# Altium footprint library PCB1.PcbLib: 38 footprints (part 3 of 3)
Each footprint in its own frame and in the unit in brackets; x right, y up, seen from the top. Pads: shape width x height; smd on the part's side, far side on the other; paste and mask are expansions set on the pad; w line width, h text height; cw(c..) or ccw(c..) is an arc to the next point about the centre after c.
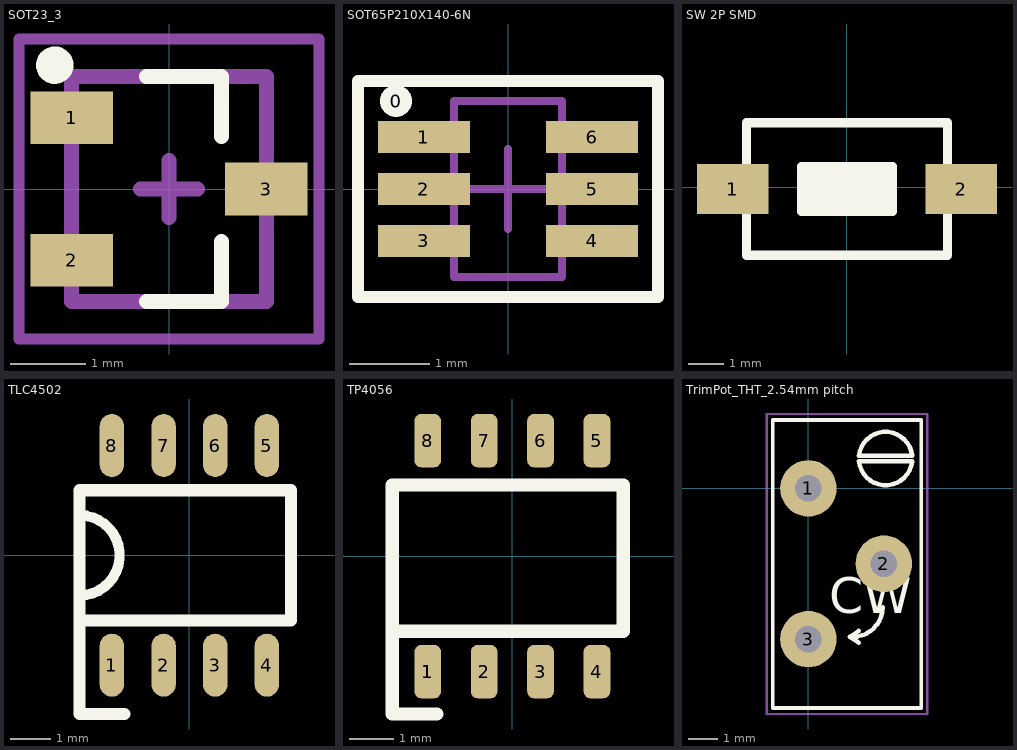
[diagram p2: the footprints below, top view; thin cyan lines are the x and y axes]

## SOT23_3 [mm]
pads (3):
  rect 1.1x0.7 smd: 1(-1.3,0.95) 2(-1.3,-0.95) 3(1.3,0)
Top Overlay:
  circle w0.25: c-1.524,1.651 r0.125
  lines w0.2: -0.3,-1.5 0.7,-1.5 0.7,-0.7 ; -0.3,1.5 0.7,1.5 0.7,0.7
Top 3D Body:
  lines w0.2: -0.381,0 0.381,0 ; 0,-0.381 0,0.381 ; -1.3,-1.5 -1.3,1.5 1.3,1.5 1.3,-1.5 -1.3,-1.5
Top Courtyard:
  lines w0.15: -2,-2 -2,2 2,2 2,-2 -2,-2
  text ".Designator" at -1.3,-0.5 h1.2
3D body "SOT95P230X110-3N.step": height 1.1, standoff 0, extent -1.3,-1.5 1.3,1.5

## SOT65P210X140-6N [mm] "SOT23, 6-Leads, Body 2.00x2.10mm, Pitch 0.65mm, IPC Medium Density"
height 1.4
pads (7):
  round 0.4 on Top Overlay: 0(-1.4,1.1)
  rect 1.15x0.4 smd: 1(-1.05,0.65) 2(-1.05,0) 3(-1.05,-0.65) 4(1.05,-0.65) 5(1.05,0) 6(1.05,0.65)
Top Overlay:
  lines w0.15: -1.875,-1.35 1.875,-1.35 1.875,1.35 -1.875,1.35 -1.875,-1.35
Top 3D Body:
  lines w0.1: -0.675,-1.1 0.675,-1.1 0.675,1.1 -0.675,1.1 -0.675,-1.1
Top Courtyard:
  lines w0.05: -1.875,-1.35 1.875,-1.35 1.875,1.35 -1.875,1.35 -1.875,-1.35
  lines w0.1: -0.5,0 0.5,0 ; 0,-0.5 0,0.5
3D body "User Library-SOT-363.step": height 1, standoff -0.05, extent -1.131,-1 1.131,1

## SW 2P SMD [mm]
pads (2):
  rect 2x1.4 smd: 1(-3.2,-0.051) 2(3.2,-0.051)
Top Overlay:
  rectangle: -1.27,-0.686 1.27,0.584
  lines w0.254: -2.819,-0.762 -2.819,-1.905 2.819,-1.905 2.819,-0.762 ; -2.819,0.66 -2.819,1.803 2.819,1.803 2.819,0.66 ; -1.27,-0.686 -1.27,0.584 1.27,0.584 1.27,-0.686 -1.27,-0.686
3D body "User Library-Button-SMD.step": height 2.5, standoff 0, extent -3.05,-1.901 3.05,1.799

## TLC4502 [mm]
pads (8):
  oval 0.6x1.55 smd: 1(-1.905,-2.7) 2(-0.635,-2.7) 3(0.635,-2.7) 4(1.905,-2.7) 5(1.905,2.7) 6(0.635,2.7) 7(-0.635,2.7) 8(-1.905,2.7)
Top Overlay:
  lines w0.254: -2.7,-0.985 ccw(c-2.7,0) -2.7,0.985
  lines w0.3: -1.6,-3.9 -2.7,-3.9 -2.7,-1.6 ; -2.7,-1.6 -2.7,1.6 2.5,1.6 2.5,-1.6 -2.7,-1.6
3D body "TLC4502CD.stp": height 1.63, standoff 0, extent -2.451,-2.974 2.451,3.049

## TP4056 [mm]
pads (9):
  rrect50% 0.6x1.2 smd: 1(-1.905,-2.6) 1(-1.905,-2.6) 2(-0.635,-2.6) 3(0.635,-2.6) 4(1.905,-2.6) 5(1.905,2.6) 6(0.635,2.6) 7(-0.635,2.6) 8(-1.905,2.6)
Top Overlay:
  lines w0.3: -2.5,-1.691 -2.7,-1.691 ; -1.696,-3.554 -2.7,-3.554 -2.7,-1.691 ; -2.7,-1.691 2.5,-1.691 2.5,1.6 -2.7,1.6 -2.7,-1.691
3D body "TP4056A.stp": height 1.75, standoff 0, extent -2.45,-3 2.45,3

## TrimPot_THT_2.54mm pitch [mil]
pads (3):
  round 75 hole 35: 1(0,0) 2(100,-100) 3(0,-200)
Top Overlay:
  lines w5: -47.24,-291.34 -47.24,90.55 149.61,90.55 149.61,-291.34 -47.24,-291.34
  lines w6: 58.86,-197.05 ccw(c58.86,-157.48) 98.43,-157.48 ; 66.93,-204.72 55.12,-197.05 66.93,-188.98 ; 67.07,35.81 137.65,35.81 ; 67.06,43.31 137.66,43.31 ; 67.12,43.3 cw(c102.36,39.55) 137.6,43.3 ; 67.13,35.81 ccw(c102.36,39.55) 137.59,35.81
  text "CW" at 27.56,-165.35 h47.24
Mechanical 13:
  lines w3: -47.24,-291.34 -47.24,90.55 149.61,90.55 149.61,-291.34 -47.24,-291.34
Top Courtyard:
  lines w3: -30,0 30,0 ; 0,-30 0,30 ; -55.12,-299.34 157.48,-299.34 157.48,98.66 -55.12,98.66 -55.12,-299.34
3D body "3100-517 TrimPot.stp": height 444.88, standoff -236.22, extent -47.24,-287.4 149.61,90.55